# EAGLE library part USBC (library untitled)
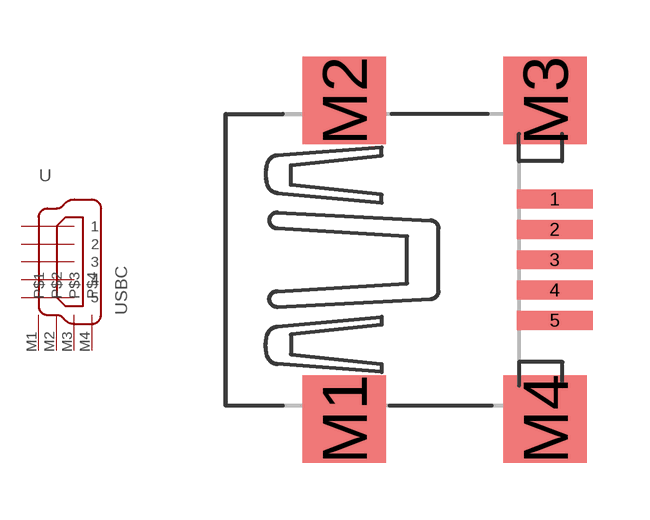
[diagram p7: symbol with the pads of USBC; footprint USBC]

Designator prefix -

## USBC  [USBC]
1  1  pas
2  2  pas
3  3  pas
4  4  pas
5  5  pas
M1  P$1
M2  P$2
M3  P$3
M4  P$4

## Footprint USBC (pad centres in mm)
smd 2 x 0.5: 1 3,1.6; 2 3,0.8; 3 3,0; 4 3,-0.8; 5 3,-1.6
smd 2.2 x 2.3: M1 -2.55,-4.2; M2 -2.55,4.2; M3 2.75,4.2; M4 2.75,-4.2